# Altium footprint library WINSEN.PcbLib: 1 footprints
Each footprint in its own frame and in the unit in brackets; x right, y up, seen from the top. Pads: shape width x height; smd on the part's side, far side on the other; paste and mask are expansions set on the pad; w line width, h text height; cw(c..) or ccw(c..) is an arc to the next point about the centre after c.
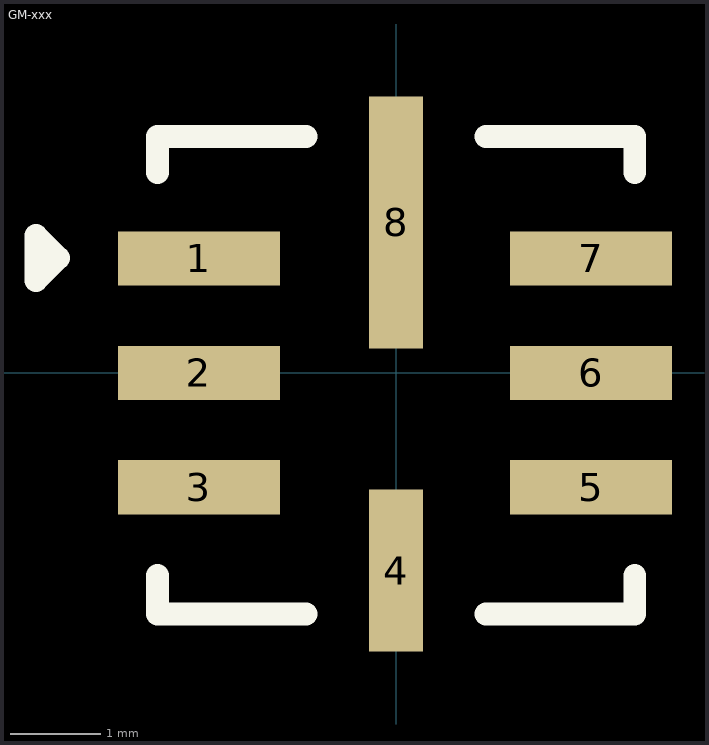
[diagram p0: the footprint, top view; thin cyan lines are the x and y axes]

## GM-xxx [mm] "GM-702B, GM-502B"
height 1.6
pads (8):
  rect 1.8x0.6 smd: 1(-2.19,1.27) 2(-2.19,0) 3(-2.19,-1.27) 5(2.165,-1.27) 6(2.165,0) 7(2.165,1.27)
  rect 0.6x1.8 smd: 4(0,-2.195)
  rect 0.6x2.8 smd: 8(0,1.67)
Top Overlay:
  lines w0.254: -2.65,-2.25 -2.65,-2.675 -1,-2.675 ; -1,2.625 -2.65,2.625 -2.65,2.225 ; 1,-2.675 2.65,-2.675 2.65,-2.25 ; 1,2.625 2.65,2.625 2.65,2.225 ; -2.65,2.225 -2.65,2.225 ; -4,1.025 -3.75,1.275 -4,1.525 -4,1.025
3D body "User Library-gm-702b.step": height 1.51, standoff -0.01, extent -2.5,-2.525 2.5,2.475